# Altium schematic symbol library 155124M173200.Schlib: 1 symbol
Pins are listed as number, name and electrical type; pins without a type are passive.

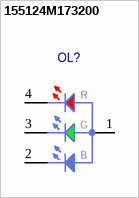
[diagram p0: symbol 155124M173200]

## 155124M173200
designator OL?  (value not drawn)
Right Angle Tricolor (RGB) Surface Mount LED
pins: 1 CC, 2 AB, 3 AG, 4 AR
text: R; G; B